# Altium schematic symbol library BT_Programmer_Shield.SchLib: 24 symbols
Pins are listed as number, name and electrical type; pins without a type are passive.

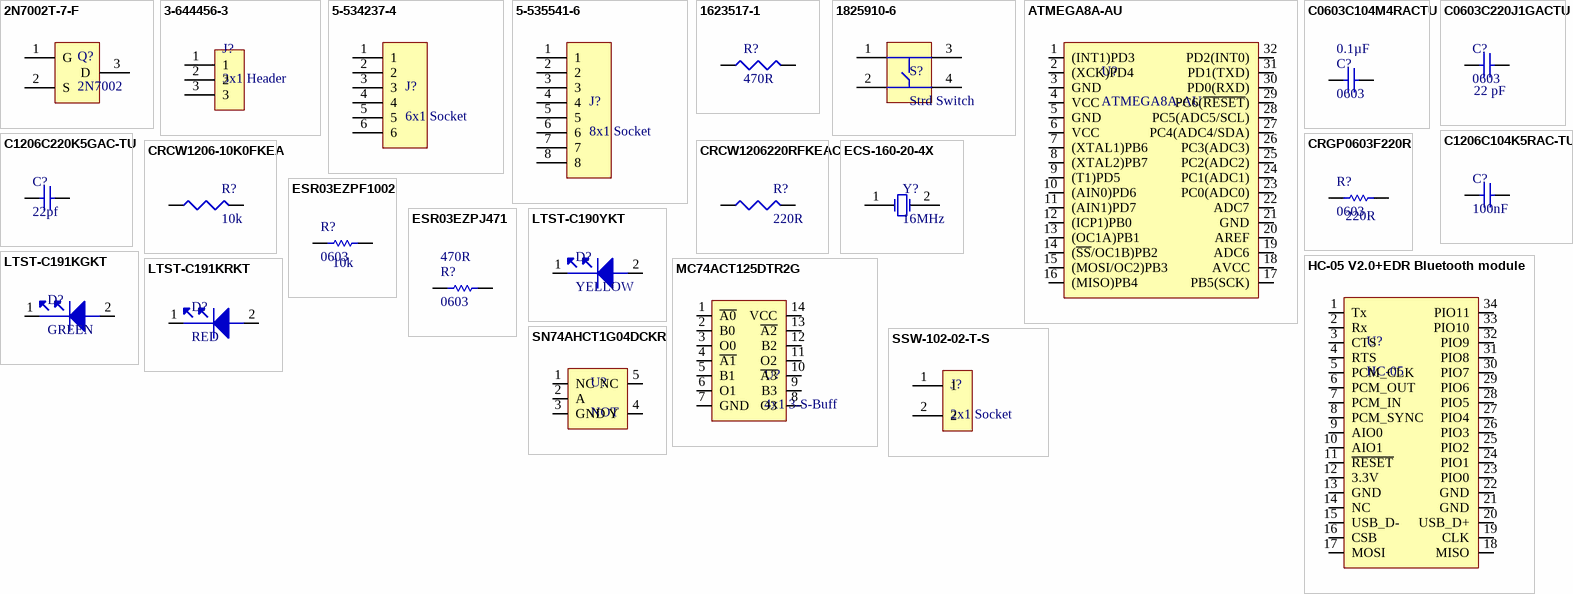
[diagram p0: symbols 2N7002T-7-F to SSW-102-02-T-S]

## 2N7002T-7-F
designator Q?, comment 2N7002
MOSFET N-Channel 60V 0.115A SOT523; Manufacturer: Diodes; Manufacturer Part Number: 2N7002T-7-F; Number of Channels: 1 Channel; Id - Continuous Drain Current: 115 mA; Rds On - Drain-Source Resistance: 4.4 Ohms; Vgs - Gate-Source Voltage: 20 V; Channel Mode: Enhancement; Brand: Diodes Incorporated; Configuration: Single; Forward Transconductance - Min: 0.08 S; Pd - Power Dissipation: 150 mW; Transistor Type: 1 N-Channel; Type: Enhancement Mode Field Effect Transistor; Typical Turn-Off Delay Time: 11 ns; Typical Turn-On Delay Time: 7 ns; Unit Weight: 0.000071 oz; Supplier 1: Digi-Key; Supplier Part Number 1: 2N7002T-FDICT-ND; Stock 1: 422299; Pricing 1: 1=0.38, 10=0.283, 25=0.2476, 100=0.1343, 500=0.1096, 1000=0.0813 (USD); Product Category: MOSFET; RoHS: True; Technology: Si; Mounting Style: SMD/SMT; Package / Case: SOT-523-3; Transistor Polarity: N-Channel; Vds - Drain-Source Breakdown Voltage: 60 V; Minimum Operating Temperature: - 55 C; Maximum Operating Temperature: + 150 C; Packaging: Reel; Height: 0.75 mm; Length: 1.6 mm; Product: MOSFET Small Signal; Series: 2N7002; Factory Pack Quantity: 3000; Width: 0.8 mm; ComponentLink1URL: http://docs-europe.electrocomponents.com/webdocs/0e49/0900766b80e493a7.pdf?src-supplier=Allied+Electronics; ComponentLink1Description: http://docs-europe.electrocomponents.com/webdocs/0e49/0900766b80e493a7.pdf?src-supplier=Allied+Electronics; ComponentLink2URL: https://www.diodes.com/assets/Datasheets/ds30301.pdf?src-supplier=Digi-Key; ComponentLink2Description: https://www.diodes.com/assets/Datasheets/ds30301.pdf?src-supplier=Digi-Key; ComponentLink3URL: https://www.verical.com/server-webapp/html/getDatasheet?partID=141065&src-supplier=Verical; ComponentLink3Description: https://www.verical.com/server-webapp/html/getDatasheet?partID=141065&src-supplier=Verical; ComponentLink4URL: http://www.diodes.com/datasheets/ds30301.pdf?src-supplier=Avnet; ComponentLink4Description: http://www.diodes.com/datasheets/ds30301.pdf?src-supplier=Avnet; ComponentLink5URL: http://www.farnell.com/datasheets/1915455.pdf?src-supplier=Element14; ComponentLink5Description: http://www.farnell.com/datasheets/1915455.pdf?src-supplier=Element14; ComponentLink6URL: http://www.diodes.com/_files/datasheets/ds30301.pdf?src-supplier=Future+Electronics; ComponentLink6Description: http://www.diodes.com/_files/datasheets/ds30301.pdf?src-supplier=Future+Electronics; ComponentLink7URL: http://www.diodes.com/datasheets/ds30301.pdf?src-supplier=Avnet+Europe; ComponentLink7Description: http://www.diodes.com/datasheets/ds30301.pdf?src-supplier=Avnet+Europe; ComponentLink8URL: http://www.jameco.com/Jameco/Products/ProdDS/1538460.pdf?src-supplier=Jameco; ComponentLink8Description: http://www.jameco.com/Jameco/Products/ProdDS/1538460.pdf?src-supplier=Jameco
footprint NMOS SOT523
pins: 1 G, 2 S, 3 D

## 3-644456-3
designator J?, comment 3x1 Header
CONN HEADER VERT 3POS 2.54MM; Manufacturer: TE Connectivity; Manufacturer Part Number: 3-644456-3; Catalog Drawings: 64 Series Strt Post Header; Featured Product: MTA Connectors; 3D Model: 3-644456-3.pdf; Connector Type: Header, Unshrouded; Number of Positions: 3; Number of Positions Loaded: All; Pitch: 0.100" (2.54mm); Dynamic Catalog: MTA-100 Series; Mating Products: 3-644872-3-ND / - CONN RCPT 3POS 24AWG .100 WHITE / 3-644514-3-ND / - CONN RCPT 3POS 28AWG .100 GREEN / 3-644513-3-ND / - CONN RCPT 3POS 26AWG .100 BLUE / 3-644512-3-ND / - CONN RCPT 3POS 24AWG .100 WHITE / 3-641314-3-ND / - CONN RCPT 3POS 28AWG .100 GREEN / 3-641313-3-ND / - CONN RCPT 3POS 26AWG .100 BLUE / 3-641311-3-ND / - CONN RCPT 3POS 22AWG .100 RED / 3-640471-3-ND / - CONN RCPT 3POS 28AWG .100 GREEN / 3-640470-3-ND / - CONN RCPT 3POS 26AWG .100 BLUE / 3-640469-3-ND / - CONN RCPT 3POS 24AWG .100 WHITE / More.; Other Names: 3-644456-3-ND / A31113; Supplier 1: Digi-Key; Supplier Part Number 1: A31113-ND; Stock 1: 6505; Pricing 1: 1=0.27, 10=0.26, 100=0.1817, 500=0.1558, 1000=0.1298, 5000=0.1113, 10000=0.1038 (USD); RoHS Information: 3-644456-3 Statement of Compliance; Standard Package: 15,000; Category: Connectors, Interconnects; Family: Rectangular Connectors - Headers, Male Pins; Series: MTA-100; Contact Type: Male Pin; Number of Rows: 1; Contact Mating Length: 0.295" (7.49mm); Mounting Type: Through Hole; Termination: Solder; Contact Finish: Tin; Contact Finish Thickness: 150µin (3.81µm); Color: Natural; Packaging: Bulk; ComponentLink1URL: https://www.te.com/commerce/DocumentDelivery/DDEController?Action=srchrtrv&DocNm=644456&DocType=Customer+Drawing&DocLang=English&src-supplier=Digi-Key; ComponentLink1Description: https://www.te.com/commerce/DocumentDelivery/DDEController?Action=srchrtrv&DocNm=644456&DocType=Customer+Drawing&DocLang=English&src-supplier=Digi-Key; ComponentLink2URL: https://www.alliedelec.com/m/d/fdd166ad3a7836eb9c030d72aa4949d7.pdf?src-supplier=Allied+Electronics; ComponentLink2Description: https://www.alliedelec.com/m/d/fdd166ad3a7836eb9c030d72aa4949d7.pdf?src-supplier=Allied+Electronics; ComponentLink3URL: https://www.verical.com/server-webapp/html/getDatasheet?partID=36881&src-supplier=Verical; ComponentLink3Description: https://www.verical.com/server-webapp/html/getDatasheet?partID=36881&src-supplier=Verical; ComponentLink4URL: http://www.te.com/commerce/DocumentDelivery/DDEController?Action=showdoc&DocId=Data+Sheet%7F82056_MTA%7F0608%7Fpdf%7FEnglish%7FENG_DS_82056_MTA_0608.pdf%7F3-644456-3&src-supplier=Future+Electronics; ComponentLink4Description: http://www.te.com/commerce/DocumentDelivery/DDEController?Action=showdoc&DocId=Data+Sheet%7F82056_MTA%7F0608%7Fpdf%7FEnglish%7FENG_DS_82056_MTA_0608.pdf%7F3-644456-3&src-supplier=Future+Electronics; ComponentLink5URL: http://www.jameco.com/Jameco/Products/ProdDS/1967934.pdf?src-supplier=Jameco; ComponentLink5Description: http://www.jameco.com/Jameco/Products/ProdDS/1967934.pdf?src-supplier=Jameco; ComponentLink6URL: http://www.onlinecomponents.com/productFiles/mf-AMP/8852eng_ds_82056_mta_0608.pdf?src-supplier=Onlinecomponents.com; ComponentLink6Description: http://www.onlinecomponents.com/productFiles/mf-AMP/8852eng_ds_82056_mta_0608.pdf?src-supplier=Onlinecomponents.com; Category: Connectors
footprint HDR1X3
pins: 1, 2, 3

## 5-534237-4
designator J?, comment 6x1 Socket
Conn Socket Strip SKT 6 POS 2.54mm Solder ST Thru-Hole; Manufacturer: TE Connectivity; Manufacturer Part Number: 5-534237-4; Catalog Drawings: MOD IV Vertical Mount; Featured Product: AMPMODU Connectors; Connector Type: Receptacle; Number of Positions: 6; Number of Positions Loaded: All; Pitch: 0.100" (2.54mm); Dynamic Catalog: AMPMODU Mod IV Series; Mating Products: 3-104349-0-ND / - CONN HDR BRKAY 6POS R/A .100 TIN / 5-146285-6-ND / - CONN HEADER BRKWAY 6POS SGL .100 / 5-146280-6-ND / - CONN HEADER BRKWAY 6POS SGL .100 / 3-103336-7-ND / - CONN HEADER .100 6POS VERT GOLD / 146133-4-ND / - CONN HEADER BRKAWAY 6POS TIN / 146129-4-ND / - CONN HEADER BRKAWAY 6POS .100 / 146132-4-ND / - CONN HEADER B/A 6POS SL PCB TIN / 104346-4-ND / - CONN HEADER 6POS VERT PCB TIN / 87348-6-ND / - CONN HEADER .100 6POS VERT TIN / A34265-06-ND / - CONN HEADR BRKWAY .100 06POS R/A / More...; Other Names: A32907; Supplier 1: Digi-Key; Supplier Part Number 1: A32907-ND; Stock 1: 947; Pricing 1: 1=1.62, 10=1.47, 100=1.26, 500=1.05, 1000=0.9, 5000=0.798, 10000=0.78 (USD); RoHS Information: 5-534237-4 Statement of Compliance; Standard Package: 37; Category: Connectors, Interconnects; Family: Rectangular Connectors - Headers, Receptacles, Female Sockets; Series: AMPMODU Mod IV; Contact Type: Female Socket; Number of Rows: 1; Mounting Type: Through Hole; Termination: Solder; Contact Finish: Gold; Contact Finish Thickness: 30µin (0.76µm); Color: Black; Packaging: Tube; ComponentLink1URL: http://www.te.com/commerce/DocumentDelivery/DDEController?Action=showdoc&DocId=Catalog+Section%7F1307819_SECTION_5%7F0908%7Fpdf%7FEnglish%7FENG_CS_1307819_SECTION_5_0908.pdf%7F5-534237-4&src-supplier=Future+Electronics; ComponentLink1Description: http://www.te.com/commerce/DocumentDelivery/DDEController?Action=showdoc&DocId=Catalog+Section%7F1307819_SECTION_5%7F0908%7Fpdf%7FEnglish%7FENG_CS_1307819_SECTION_5_0908.pdf%7F5-534237-4&src-supplier=Future+Electronics; ComponentLink2URL: https://www.te.com/commerce/DocumentDelivery/DDEController?Action=srchrtrv&DocNm=534237&DocType=Customer+Drawing&DocLang=English&src-supplier=Digi-Key; ComponentLink2Description: https://www.te.com/commerce/DocumentDelivery/DDEController?Action=srchrtrv&DocNm=534237&DocType=Customer+Drawing&DocLang=English&src-supplier=Digi-Key; ComponentLink3URL: http://www.te.com/commerce/DocumentDelivery/DDEController?Action=srchrtrv&DocNm=1307819_AMPMODU&DocType=DS&DocLang=English&s_cid=1046&src-supplier=Avnet; ComponentLink3Description: http://www.te.com/commerce/DocumentDelivery/DDEController?Action=srchrtrv&DocNm=1307819_AMPMODU&DocType=DS&DocLang=English&s_cid=1046&src-supplier=Avnet; Category: Connectors
footprint FHDR1X6
pins: 1, 2, 3, 4, 5, 6

## 5-535541-6
designator J?, comment 8x1 Socket
CONN RECEPT 8POS .100 VERT GOLD; Manufacturer: TE Connectivity; Manufacturer Part Number: 5-535541-6; Catalog Drawings: MOD IV Vertical Mount Low Profile; Featured Product: AMPMODU Connectors; 3D Model: 5-535541-6.pdf; Connector Type: Receptacle; Number of Positions: 8; Number of Positions Loaded: All; Pitch: 0.100" (2.54mm); Dynamic Catalog: AMPMODU Mod IV Series; Mating Products: 826646-8-ND / - CONN HEADER BRKWAY 8POS STR GOLD / 5-146282-8-ND / - CONN HEADER BRKWAY 8POS SGL .100 / 146285-8-ND / - CONN HEADER BRKWAY 8POS SGL .100 / 146281-8-ND / - CONN HEADER BRKWAY 8POS SGL .100 / 104349-6-ND / - CONN HEADER 8POS R/A TIN / A34264-08-ND / - CONN HEADR BRKWAY .100 08POS R/A / A34262-08-ND / - CONN HEADR BRKWAY .100 08POS R/A / A34261-08-ND / - CONN HEADR BRKWAY .100 08POS R/A / A34260-08-ND / - CONN HEADR BRKWAY .100 08POS R/A / A34256-08-ND / - CONN HDR BRKWAY .100 08POS VERT / More...; Other Names: A32921; Supplier 1: Digi-Key; Supplier Part Number 1: A32921-ND; Stock 1: 1412; Pricing 1: 1=2, 10=1.813, 100=1.554, 500=1.295, 1000=1.11, 5000=0.9842, 10000=0.962 (USD); RoHS Information: 5-535541-6 Statement of Compliance; Standard Package: 28; Category: Connectors, Interconnects; Family: Rectangular Connectors - Headers, Receptacles, Female Sockets; Series: AMPMODU Mod IV; Contact Type: Female Socket; Number of Rows: 1; Mounting Type: Through Hole; Termination: Solder; Contact Finish: Gold; Contact Finish Thickness: 30µin (0.76µm); Color: Black; Packaging: Tube; ComponentLink1URL: https://www.te.com/commerce/DocumentDelivery/DDEController?Action=srchrtrv&DocNm=535541&DocType=Customer+Drawing&DocLang=English&src-supplier=Digi-Key; ComponentLink1Description: https://www.te.com/commerce/DocumentDelivery/DDEController?Action=srchrtrv&DocNm=535541&DocType=Customer+Drawing&DocLang=English&src-supplier=Digi-Key; ComponentLink2URL: http://www.tycoelectronics.com/commerce/DocumentDelivery/DDEController?Action=srchrtrv&DocNm=1307819_SECTION_5&DocType=Catalog+Section&DocLang=English&src-supplier=Element14; ComponentLink2Description: http://www.tycoelectronics.com/commerce/DocumentDelivery/DDEController?Action=srchrtrv&DocNm=1307819_SECTION_5&DocType=Catalog+Section&DocLang=English&src-supplier=Element14; ComponentLink3URL: http://www.onlinecomponents.com/productFiles/mf-AMP/eng_ds_1307819_ampmodu_0811.pdf?src-supplier=Onlinecomponents.com; ComponentLink3Description: http://www.onlinecomponents.com/productFiles/mf-AMP/eng_ds_1307819_ampmodu_0811.pdf?src-supplier=Onlinecomponents.com; Category: Connectors
footprint FHDR1X8
pins: 1, 2, 3, 4, 5, 6, 7, 8

## 1623517-1
designator R?, comment 470R
Res Thick Film 1206 470 Ohm 1% 0.25W(1/4W) ±100ppm/C Pad SMD T/R; Manufacturer: TE Connectivity; Manufacturer Part Number: 1623517-1; Resistance (Ohms): 470; Power (Watts): 0.25W, 1/4W; Temperature Coefficient: ±100ppm/°C; Dynamic Catalog: CRG, Neohm Series; Other Names: 1623517-1-ND / A106077TR / CRG1206F470R; Supplier 1: Digi-Key; Supplier Part Number 1: A106077CT-ND; Stock 1: 86246; Pricing 1: 1=0.1, 10=0.071, 100=0.029, 1000=0.013, 2500=0.0113 (USD); RoHS Information: 1623517-1 Statement of Compliance; Standard Package: 5,000; Category: Resistors; Family: Chip Resistor - Surface Mount; Series: CRG, Neohm; Composition: Thick Film; Tolerance: ±1%; Package / Case: 1206 (3216 Metric); Supplier Device Package: 1206; Size / Dimension: 0.122" L x 0.061" W (3.10mm x 1.55mm); Height: 0.026" (0.65mm); Number of Terminations: 2; Packaging: Tape & Reel (TR); ComponentLink1URL: http://www.te.com/commerce/DocumentDelivery/DDEController?Action=srchrtrv&DocNm=1773204&DocType=DS&DocLang=English&src-supplier=Digi-Key; ComponentLink1Description: http://www.te.com/commerce/DocumentDelivery/DDEController?Action=srchrtrv&DocNm=1773204&DocType=DS&DocLang=English&src-supplier=Digi-Key; ComponentLink2URL: http://www.te.com/commerce/DocumentDelivery/DDEController?Action=showdoc&DocId=Data+Sheet%7F1773204%7FH%7Fpdf%7FEnglish%7FENG_DS_1773204_H.pdf&src-supplier=Avnet; ComponentLink2Description: http://www.te.com/commerce/DocumentDelivery/DDEController?Action=showdoc&DocId=Data+Sheet%7F1773204%7FH%7Fpdf%7FEnglish%7FENG_DS_1773204_H.pdf&src-supplier=Avnet
footprint R1206
pins: 1, 2

## 1825910-6
designator S?, comment Strd Switch
SWITCH TACTILE SPST-NO 0.05A 24V; Manufacturer: TE Connectivity Alcoswitch; Manufacturer Part Number: 1825910-6; Actuator Color: Black; Actuator Length: 1.4 mm; Actuator Material: Polybutylene Terephthalate; Body Orientation: Straight; Actuator Style: Round Button; Bushing Type: Unthreaded; Electrical Life: 100000 Cycles; Dielectric Strength: 500 VAC; Contact Rating @ Voltage: 0.05A@24VDC; Function: Momentary Contact; Pole Throw Configuration: SPST; Maximum Contact Resistance: 100 mOhm; Illumination: N/R; Switch Configuration: OFF (ON); Supplier 1: Digi-Key; Supplier Part Number 1: 450-1650-ND; Stock 1: 104984; Pricing 1: 1=0.1, 10=0.101, 25=0.0956, 100=0.087, 250=0.0818, 500=0.0748, 1000=0.0627, 2500=0.0609, 5000=0.0574 (USD); Base Material: N/A; Family: 1825910; Contact Material: Copper Alloy; Contact Plating: Silver; Dimension: 5.99 x 5 mm; Part No: 1825910-6; RoHS: Yes; Maximum AC Voltage Rating: N/A; Maximum DC Voltage Rating: 24 V; Mechanical Life: 100000 Cycles; Packaging: N/A; Housing Material: N/A; Product Weight: N/A; Mounting: Through Hole; Minimum Insulation Resistance: 100 MOhm; Operating Temperature: -35 to 85 C; Terminal Type: PC Pins; Seal Description: N/A; Seal Location: N/A; Thread Size: N/R; ComponentLink1URL: http://www.onlinecomponents.com/productFiles/mf-AMP/1825910-6rqpn1825910-6.pdf?src-supplier=Onlinecomponents.com; ComponentLink1Description: http://www.onlinecomponents.com/productFiles/mf-AMP/1825910-6rqpn1825910-6.pdf?src-supplier=Onlinecomponents.com; ComponentLink2URL: http://www.te.com/commerce/DocumentDelivery/DDEController?Action=srchrtrv&DocNm=1825910&DocType=Customer+Drawing&DocLang=English&src-supplier=Verical; ComponentLink2Description: http://www.te.com/commerce/DocumentDelivery/DDEController?Action=srchrtrv&DocNm=1825910&DocType=Customer+Drawing&DocLang=English&src-supplier=Verical; Category: Switches
footprint SW DIP2
pins: 1, 2, 3, 4

## ATMEGA8A-AU
designator U?
MCU 8-bit ATmega AVR RISC 8KB Flash 3.3V/5V 32-Pin TQFP; Manufacturer: Microchip; Supplier 1: Digi-Key; Supplier Part Number 1: ATMEGA8A-AU-ND; Manufacturer Part Number: ATMEGA8A-AU; Stock 1: 786; Pricing 1: 1=1.91, 25=1.75, 100=1.59 (USD); Category: Integrated Circuits (ICs)
footprint M8 32L_TQFP_PT
pins: 1 (INT1)PD3, 2 (XCK)PD4, 3 GND, 4 VCC, 5 GND, 6 VCC, 7 (XTAL1)PB6, 8 (XTAL2)PB7, 9 (T1)PD5, 10 (AIN0)PD6, 11 (AIN1)PD7, 12 (ICP1)PB0, 13 (OC1A)PB1, 14 (~{SS}/OC1B)PB2, 15 (MOSI/OC2)PB3, 16 (MISO)PB4, 17 PB5(SCK), 18 AVCC, 19 ADC6, 20 AREF, 21 GND, 22 ADC7, 23 PC0(ADC0), 24 PC1(ADC1), 25 PC2(ADC2), 26 PC3(ADC3), 27 PC4(ADC4/SDA), 28 PC5(ADC5/SCL), 29 PC6(~{RESET}), 30 PD0(RXD), 31 PD1(TXD), 32 PD2(INT0)

## C0603C104M4RACTU
designator C?, comment 0603  Capacitance: 0.1µF
CAP CER 0.1UF 16V X7R 0603; Manufacturer: KEMET; Manufacturer Part Number: C0603C104M4RACTU; Ceramic Capacitor Case: 0603 [1608 Metric]; Capacitance Tolerance: ± 20%; Product Range: C Series; SVHC: No SVHC (15-Jun-2015); Supplier 1: Digi-Key; Supplier Part Number 1: 399-1099-1-ND; Stock 1: 188304; Pricing 1: 1=0.1, 10=0.035, 50=0.0188, 100=0.0154, 500=0.011, 1000=0.0087 (USD); Voltage Rating: 16V; Dielectric Characteristic: X7R; Packaging: Cut Tape; Operating Temperature Min: -55°C; Operating Temperature Max: 125°C; Automotive Qualification Standard: -; MSL: MSL 1 - Unlimited; ComponentLink1URL: https://www.verical.com/server-webapp/html/getDatasheet?partID=66190&src-supplier=Verical; ComponentLink1Description: https://www.verical.com/server-webapp/html/getDatasheet?partID=66190&src-supplier=Verical; ComponentLink2URL: http://www.farnell.com/datasheets/2746055.pdf?src-supplier=Element14; ComponentLink2Description: http://www.farnell.com/datasheets/2746055.pdf?src-supplier=Element14; ComponentLink3URL: http://www.farnell.com/datasheets/2123765.pdf?src-supplier=Element14; ComponentLink3Description: http://www.farnell.com/datasheets/2123765.pdf?src-supplier=Element14; ComponentLink4URL: http://www.alliedelec.com/m/d/9bfe7773041ffe9d406e68bc7b377fdd.pdf?src-supplier=Allied+Electronics; ComponentLink4Description: http://www.alliedelec.com/m/d/9bfe7773041ffe9d406e68bc7b377fdd.pdf?src-supplier=Allied+Electronics; ComponentLink5URL: https://www.verical.com/server-webapp/html/getDatasheet?partID=302288&src-supplier=Verical; ComponentLink5Description: https://www.verical.com/server-webapp/html/getDatasheet?partID=302288&src-supplier=Verical
footprint C0603
pins: 1, 2

## C0603C220J1GACTU
designator C?, comment 0603  Capacitance: 22 pF
CAP CER 22PF 100V C0G/NP0 0603; Manufacturer: KEMET; Manufacturer Part Number: C0603C220J1GACTU; Part # Aliases: C0603C220J1GAC7867; Tolerance: 5 %; Dielectric: C0G (NP0); Case Height: 0.8 mm; Case Length: 1.6 mm; Class: 1; Dissipation Factor DF: 0.5; Temperature Coefficient / Code: +/- 30 PPM / C; Type: C0G Dielectric, Commercial; Supplier 1: Digi-Key; Supplier Part Number 1: 399-7874-1-ND; Stock 1: 518345; Pricing 1: 1=0.1, 10=0.057, 50=0.0312, 100=0.0255, 500=0.0182, 1000=0.0143 (USD); Dimensions: 0.8 mm W x 1.6 mm L x 0.8 mm H; Voltage Rating: 100 V; Product Category: Multilayer Ceramic Capacitors MLCC - SMD/SMT; RoHS: Details; Brand: Kemet; Voltage Rating DC: 100 V; Case Code - in: 0603; Case Code - mm: 1608; Minimum Operating Temperature: - 55 C; Maximum Operating Temperature: + 125 C; Product: General Type MLCCs; Case Width: 0.8 mm; Lead Spacing: 0.7 mm; Operating Temperature Range: - 55 C to + 125 C; Package / Case: 0603 (1608 metric); Packaging: Reel; Series: C0603C; Factory Pack Quantity: 4000; Termination Style: SMD/SMT; ComponentLink1URL: http://www.farnell.com/datasheets/2740975.pdf?src-supplier=Element14; ComponentLink1Description: http://www.farnell.com/datasheets/2740975.pdf?src-supplier=Element14; Category: Capacitors
footprint C0603
pins: 1, 2

## C1206C104K5RAC-TU
designator C?, comment 100nF
Kemet 0.1µF ±10% 50V dc X7R Dielectric SMD Ceramic Multilayer Capacitor; 1206 pa; Manufacturer Part Number: C1206C104K5RAC-TU; SVHC: To Be Advised; Product Range: KEMET - C Series; Capacitor Case Style: 1206 [3216 Metric]; Supplier 1: Digi-Key; Supplier Part Number 1: 399-C1206C104K5RAC7800CT-ND; Manufacturer: KEMET; Stock 1: 1664205; Pricing 1: 1=0.12, 10=0.084, 50=0.0476, 100=0.0395, 500=0.0277, 1000=0.0229 (USD); Capacitance: 0.1µF; Capacitance Tolerance: ± 10%; Dielectric Characteristic: X7R; Voltage Rating: 50V; Operating Temperature Min: -55°C; Operating Temperature Max: 125°C; Packaging: Tape & Reel; ComponentLink1URL: http://www.kemet.com/kemet/web/homepage/kechome.nsf/vapubfiles/KEM_C1002_X7R_SMD.pdf/$file/KEM_C1002_X7R_SMD.pdf?src-supplier=Farnell; ComponentLink1Description: http://www.kemet.com/kemet/web/homepage/kechome.nsf/vapubfiles/KEM_C1002_X7R_SMD.pdf/$file/KEM_C1002_X7R_SMD.pdf?src-supplier=Farnell; ComponentLink2URL: http://www.mouser.com/ds/2/212/KEM_C1002_X7R_SMD-1102033.pdf?src-supplier=Mouser; ComponentLink2Description: http://www.mouser.com/ds/2/212/KEM_C1002_X7R_SMD-1102033.pdf?src-supplier=Mouser; ComponentLink3URL: http://www.farnell.com/datasheets/2315737.pdf?src-supplier=Farnell; ComponentLink3Description: http://www.farnell.com/datasheets/2315737.pdf?src-supplier=Farnell; ComponentLink4URL: http://www.alliedelec.com/m/d/9bfe7773041ffe9d406e68bc7b377fdd.pdf?src-supplier=Allied+Electronics; ComponentLink4Description: http://www.alliedelec.com/m/d/9bfe7773041ffe9d406e68bc7b377fdd.pdf?src-supplier=Allied+Electronics; ComponentLink5URL: http://www.farnell.com/datasheets/1851736.pdf?src-supplier=Element14; ComponentLink5Description: http://www.farnell.com/datasheets/1851736.pdf?src-supplier=Element14; ComponentLink6URL: http://www.kemet.com/kemet/web/homepage/kechome.nsf/vapubfiles/KEM_C1002_X7R_SMD.pdf/$file/KEM_C1002_X7R_SMD.pdf?src-supplier=Element14; ComponentLink6Description: http://www.kemet.com/kemet/web/homepage/kechome.nsf/vapubfiles/KEM_C1002_X7R_SMD.pdf/$file/KEM_C1002_X7R_SMD.pdf?src-supplier=Element14; ComponentLink7URL: http://www.onlinecomponents.com/productFiles/mf-KEM/docfinderpartnumberc0402c102k5ractu.pdf?src-supplier=Onlinecomponents.com; ComponentLink7Description: http://www.onlinecomponents.com/productFiles/mf-KEM/docfinderpartnumberc0402c102k5ractu.pdf?src-supplier=Onlinecomponents.com; ComponentLink8URL: https://www.distrelec.biz/Web/Downloads/_t/ds/KEM_C1002_X7R_SMD_eng_tds.pdf?mime=application%2Fpdf&src-supplier=Distrelec; ComponentLink8Description: https://www.distrelec.biz/Web/Downloads/_t/ds/KEM_C1002_X7R_SMD_eng_tds.pdf?mime=application%2Fpdf&src-supplier=Distrelec; Category: Capacitors
footprint C1206
pins: 1, 2

## C1206C220K5GAC-TU
designator C?, comment 22pf
Cap Ceramic 22pF 50V C0G 10% SMD 1206 125°C Plastic T/R; Manufacturer: KEMET; Manufacturer Part Number: C1206C220K5GAC-TU; Part # Aliases: C1206C220K5GAC7800; Case Height: 0.78 mm; Case Length: 3.2 mm; Dielectric: C0G (NP0); Case Width: 1.6 mm; Class: Class 1; Dissipation Factor DF: 0.1; Temperature Coefficient / Code: +/- 30 PPM / C; Type: SMD MLCC C0G 10 - 250 VDC Commercial Grade; Supplier 1: Digi-Key; Supplier Part Number 1: 399-8165-1-ND; Stock 1: 40150; Pricing 1: 1=0.21, 10=0.152, 50=0.0864, 100=0.0716, 500=0.0502, 1000=0.0416 (USD); Brand: Kemet; Capacitance: 22 pF; Case Code - in: 1206; Case Code - mm: 3216; Dimensions: 1.6 mm W x 3.2 mm L x 0.78 mm H; Maximum Operating Temperature: + 125 C; Factory Pack Quantity: 4000; Voltage Rating: 50 V; Product Category: Multilayer Ceramic Capacitors MLCC - SMD/SMT; RoHS: Details; Voltage Rating DC: 50 V; Tolerance: 10 %; Minimum Operating Temperature: - 55 C; Product: General Type MLCCs; Operating Temperature Range: - 55 C to + 125 C; Package / Case: 1206 (3216 metric); Packaging: Reel; Series: C1206C; Termination Style: SMD/SMT; ComponentLink1URL: http://www.mouser.com/ds/2/212/KEM_C1003_C0G_SMD-1101588.pdf?src-supplier=Mouser; ComponentLink1Description: http://www.mouser.com/ds/2/212/KEM_C1003_C0G_SMD-1101588.pdf?src-supplier=Mouser; Category: Capacitors
footprint C1206
pins: 1, 2

## CRCW1206-10K0FKEA
designator R?, comment 10k
Resistor; Thick Film; 10 Kilohms; 0.25 W; 1%; SMT; 1206; TCR 37 ppm/DegC; Tape and Reel; Manufacturer: Vishay; Manufacturer Part Number: CRCW1206-10K0FKEA; Brand: Vishay / Dale; Resistance: 10 kOhms; Power Rating: 250 mW (1/4 W); Temperature Coefficient: 100 PPM / K; Voltage Rating: 200 V; Unit Weight: 0.000353 oz; Supplier 1: Digi-Key; Supplier Part Number 1: 541-10.0KFCT-ND; Stock 1: 126056; Pricing 1: 1=0.1, 10=0.073, 100=0.0282, 1000=0.0124, 2500=0.0107 (USD); Product Category: Thick Film Resistors - SMD; RoHS: Details; Tolerance: 1 %; Case Code - in: 1206; Case Code - mm: 3216; Operating Temperature Range: - 55 C to + 155 C; Series: CRCW; Height: 0.55 mm; Length: 3.2 mm; Package / Case: 1206 (3216 metric); Packaging: Reel; Product: Thick Film Resistors SMD; Factory Pack Quantity: 5000; Termination Style: SMD/SMT; Width: 1.6 mm; ComponentLink1URL: http://www.vishay.com/docs/20035/dcrcwe3.pdf?src-supplier=Digi-Key; ComponentLink1Description: http://www.vishay.com/docs/20035/dcrcwe3.pdf?src-supplier=Digi-Key; ComponentLink2URL: http://www.mouser.com/ds/2/427/dcrcwe3-109170.pdf?src-supplier=Mouser; ComponentLink2Description: http://www.mouser.com/ds/2/427/dcrcwe3-109170.pdf?src-supplier=Mouser; ComponentLink3URL: http://uk.rs-online.com/webdocs/0d98/0900766b80d98b5e.pdf?src-supplier=RSComponents; ComponentLink3Description: http://uk.rs-online.com/webdocs/0d98/0900766b80d98b5e.pdf?src-supplier=RSComponents; ComponentLink4URL: http://www.farnell.com/datasheets/2111203.pdf?src-supplier=Element14; ComponentLink4Description: http://www.farnell.com/datasheets/2111203.pdf?src-supplier=Element14; ComponentLink5URL: http://www.jameco.com/Jameco/Products/ProdDS/2173693.pdf?src-supplier=Jameco; ComponentLink5Description: http://www.jameco.com/Jameco/Products/ProdDS/2173693.pdf?src-supplier=Jameco; ComponentLink6URL: http://www.vishay.com/docs/20035/dcrcwe3.pdf?src-supplier=Avnet+Europe; ComponentLink6Description: http://www.vishay.com/docs/20035/dcrcwe3.pdf?src-supplier=Avnet+Europe; ComponentLink7URL: http://www.vishay.com/docs/20035/dcrcwe3.pdf?src-supplier=Avnet; ComponentLink7Description: http://www.vishay.com/docs/20035/dcrcwe3.pdf?src-supplier=Avnet; ComponentLink8URL: https://www.distrelec.biz/Web/Downloads/a_/en/flD-CRCW-e3_data_en.pdf?mime=application%2Fpdf&src-supplier=Distrelec; ComponentLink8Description: https://www.distrelec.biz/Web/Downloads/a_/en/flD-CRCW-e3_data_en.pdf?mime=application%2Fpdf&src-supplier=Distrelec; ComponentLink9URL: http://www.vishay.com/docs/20035/dcrcwe3.pdf?src-supplier=Future+Electronics; ComponentLink9Description: http://www.vishay.com/docs/20035/dcrcwe3.pdf?src-supplier=Future+Electronics; ComponentLink10URL: http://www.alliedelec.com/m/d/0c934d6939ccefa68dbe0b96d821c8cf.pdf?src-supplier=Allied+Electronics; ComponentLink10Description: http://www.alliedelec.com/m/d/0c934d6939ccefa68dbe0b96d821c8cf.pdf?src-supplier=Allied+Electronics; Category: Resistors
footprint R1206
pins: 1, 2

## CRCW1206220RFKEAC
designator R?, comment 220R
RES SMD 220 OHM 1% 1/4W 1206; Manufacturer: Vishay Dale; Manufacturer Part Number: CRCW1206220RFKEAC; Categories: Resistors; Resistance: 220 Ohms; Power (Watts): 0.25W, 1/4W; Temperature Coefficient: ±100ppm/°C; Supplier 1: Digi-Key; Supplier Part Number 1: 541-4190-1-ND; Stock 1: 41055; Pricing 1: 1=0.1, 10=0.07, 100=0.0271, 1000=0.0119, 2500=0.0103 (USD); Series: CRCW-C; Packaging: Tape & Reel (TR); Part Status: Active; Tolerance: ±1%; Composition: Thick Film; Features: -; Operating Temperature: -55°C ~ 155°C; Package / Case: 1206 (3216 Metric); Supplier Device Package: 1206; Size / Dimension: 0.120 L x 0.061 W (3.05mm x 1.55mm); Height - Seated (Max): 0.026 (0.65mm); Number of Terminations: 2; Failure Rate: -; ComponentLink1URL: http://www.vishay.com/docs/28773/crcwce3.pdf?src-supplier=Digi-Key; ComponentLink1Description: http://www.vishay.com/docs/28773/crcwce3.pdf?src-supplier=Digi-Key; Category: Resistors
footprint R1206
pins: 1, 2

## CRGP0603F220R
designator R?, comment 0603  Resistance: 220R
CRGP 0603 220R 1%; Manufacturer: TE Connectivity; Manufacturer Part Number: CRGP0603F220R; Categories: Resistors; Power (Watts): 0.25W, 1/4W; Temperature Coefficient: ±100ppm/°C; Supplier 1: Digi-Key; Supplier Part Number 1: A130408CT-ND; Stock 1: 49528; Pricing 1: 1=0.14, 10=0.121, 100=0.0473, 1000=0.0198, 2500=0.0182 (USD); Series: CRGP; Packaging: Cut Tape (CT); Part Status: Active; Tolerance: ±1%; Composition: Thick Film; Features: Pulse Withstanding; Operating Temperature: -55°C ~ 155°C; Package / Case: 0603 (1608 Metric); Supplier Device Package: 0603; Size / Dimension: 0.063 L x 0.031 W (1.60mm x 0.80mm); Height - Seated (Max): 0.022 (0.55mm); Number of Terminations: 2; Failure Rate: -; ComponentLink1URL: https://www.te.com/commerce/DocumentDelivery/DDEController?Action=srchrtrv&DocNm=9-1773463-9&DocType=DS&DocLang=English&src-supplier=Digi-Key; ComponentLink1Description: https://www.te.com/commerce/DocumentDelivery/DDEController?Action=srchrtrv&DocNm=9-1773463-9&DocType=DS&DocLang=English&src-supplier=Digi-Key
footprint R0603
pins: 1, 2

## ECS-160-20-4X
designator Y?, comment 16MHz
CRYSTAL 16.0000MHZ 20PF T/H; Manufacturer: ECS International; Manufacturer Part Number: ECS-160-20-4X; Brand: ECS; Case Height: 3.5 mm; Case Length: 11.35 mm; Case Width: 4.65 mm; Frequency Stability: 50 PPM; Tolerance: 30 PPM; Supplier 1: Digi-Key; Supplier Part Number 1: X1103-ND; Stock 1: 5001; Pricing 1: 1=0.69, 10=0.575, 50=0.5176, 100=0.46, 500=0.437, 1000=0.368, 2500=0.345, 5000=0.3335, 10000=0.322 (USD); Dimensions: 4.65 mm W x 11.35 mm L x 3.5 mm H; Factory Pack Quantity: 200; Frequency: 16 MHz; Load Capacitance: 20 pF; Package / Case: HC-49/US; Operating Temperature Range: - 10 C to + 70 C; Packaging: Bulk; Mounting Style: Through Hole; Product Category: Crystals; RoHS: Details; Termination Style: Radial; Series: HCS49USX; Type: Quartz Crystals; ComponentLink1URL: http://www.ecsxtal.com/store/pdf/partnumber4.pdf?src-supplier=Digi-Key; ComponentLink1Description: http://www.ecsxtal.com/store/pdf/partnumber4.pdf?src-supplier=Digi-Key; Category: Crystals
footprint Y HC-49/US
pins: 1, 2

## ESR03EZPF1002
designator R?, comment 0603  Resistance (Ohms): 10k
RES SMD 10K OHM 1% 1/4W 0603; Manufacturer: Rohm; Manufacturer Part Number: ESR03EZPF1002; Product Training Modules: Resistor Products Overview; Featured Product: ROHM Chip Resistors; EDA / CAD Models: Download from Accelerated Designs; Power (Watts): 0.25W, 1/4W; Temperature Coefficient: ±100ppm/°C; Online Catalog: ESR03 Series; Other Names: RHM10KADDKR; Supplier 1: Digi-Key; Supplier Part Number 1: RHM10KADCT-ND; Stock 1: 173014; Pricing 1: 1=0.12, 10=0.11, 100=0.0424, 1000=0.0187, 2500=0.0161 (USD); Standard Package: 1; Category: Resistors; Family: Chip Resistor - Surface Mount; Series: ESR; Packaging: Digi-Reel®; Tolerance: ±1%; Composition: Thick Film; Features: Automotive AEC-Q200, Pulse Withstanding; Operating Temperature: -55°C ~ 155°C; Package / Case: 0603 (1608 Metric); Supplier Device Package: 0603 (1608 Metric); Size / Dimension: 0.063" L x 0.031" W (1.60mm x 0.80mm); Height: 0.022" (0.55mm); Number of Terminations: 2; ComponentLink1URL: https://www.rohm.com/datasheet/ESR01MZPF/esr-e?src-supplier=Digi-Key; ComponentLink1Description: https://www.rohm.com/datasheet/ESR01MZPF/esr-e?src-supplier=Digi-Key
footprint R0603
pins: 1, 2

## ESR03EZPJ471
designator R?, comment 0603  Resistance: 470R
ROHM - ESR03EZPJ471 - SMD Chip Resistor, Anti-Surge, 0603 [1608 Metric], 470 ohm, ESR Series, 150 V, Thick Film, 250 mW; Categories: Resistors; Tolerance: ±5%; Power (Watts): 0.25W, 1/4W; Temperature Coefficient: ±200ppm/°C; Supplier 1: Digi-Key; Supplier Part Number 1: RHM470DCT-ND; Manufacturer: Rohm; Manufacturer Part Number: ESR03EZPJ471; Stock 1: 23164; Pricing 1: 1=0.1, 10=0.079, 100=0.0303, 1000=0.0133, 2500=0.0115 (USD); Series: ESR; Packaging: Tape & Reel (TR); Part Status: Active; Composition: Thick Film; Features: Automotive AEC-Q200, Pulse Withstanding; Operating Temperature: -55°C ~ 155°C; Package / Case: 0603 (1608 Metric); Supplier Device Package: 0603; Size / Dimension: 0.063 L x 0.031 W (1.60mm x 0.80mm); Height - Seated (Max): 0.022 (0.55mm); Number of Terminations: 2; Failure Rate: -; ComponentLink1URL: http://www.farnell.com/datasheets/2611941.pdf?src-supplier=Element14; ComponentLink1Description: http://www.farnell.com/datasheets/2611941.pdf?src-supplier=Element14; ComponentLink2URL: http://www.farnell.com/datasheets/2611941.pdf?src-supplier=Farnell; ComponentLink2Description: http://www.farnell.com/datasheets/2611941.pdf?src-supplier=Farnell; ComponentLink3URL: https://www.rohm.com/datasheet/ESR01MZPF/esr-e?src-supplier=Digi-Key; ComponentLink3Description: https://www.rohm.com/datasheet/ESR01MZPF/esr-e?src-supplier=Digi-Key; ComponentLink4URL: http://www.farnell.com/datasheets/2611941.pdf?src-supplier=Newark; ComponentLink4Description: http://www.farnell.com/datasheets/2611941.pdf?src-supplier=Newark
footprint R0603
pins: 1, 2

## HC-05 V2.0+EDR Bluetooth module
designator U?, comment HC-05
footprint HC-05
pins: 1 Tx, 2 Rx, 3 CTS, 4 RTS, 5 PCM_CLK, 6 PCM_OUT, 7 PCM_IN, 8 PCM_SYNC, 9 AIO0, 10 AIO1, 11 ~{RESET}, 12 3.3V, 13 GND, 14 NC, 15 USB_D-, 16 CSB, 17 MOSI, 18 MISO, 19 CLK, 20 USB_D+, 21 GND, 22 GND, 23 PIO0, 24 PIO1, 25 PIO2, 26 PIO3, 27 PIO4, 28 PIO5, 29 PIO6, 30 PIO7, 31 PIO8, 32 PIO9, 33 PIO10, 34 PIO11

## LTST-C190YKT
designator D?, comment YELLOW
LED YELLOW CLEAR CHIP SMD; Manufacturer: Vishay Lite-On; Manufacturer Part Number: LTST-C190YKT; Chip Material: GaAsP; DELETED: Compliant; Dominant Wave Length: 588 nm; Emitting Color: Amber; Forward Current: 20 mA; Forward Voltage: 2.6 V; High Brightness: No; Lum Intensity: 2.5mcd; Main Category: Chip LED; Number of  Elements: 1; Peak Wavelength: 585 nm; Power Dissipation: 60 W; Product Depth (mm): 1.6 mm; Product Height (mm): 1.1 mm; Product Length (mm): 3.2 mm; Reverse Voltage: 5 V; Shape Type: Rectangular; Test Current (It): 10 mA; Type: Uni-Color; Viewing Angle: 130 deg; Supplier 1: Digi-Key; Supplier Part Number 1: 160-1184-1-ND; Stock 1: 45611; Pricing 1: 1=0.26, 10=0.192, 100=0.0909, 500=0.0606, 1000=0.0475 (USD); Lens Dimensions: 1.1X0.8X0.52 mm; Luminous Intensity: 2.5mcd; Mounting: Surface Mount; Operating Temp Range: -55C to 85C; Operating Temperature Classification: Industrial; Package Type: Chip Led; Packaging: Tape and Reel; Pin Count: 2; Rad Hardened: No; ComponentLink1URL: http://www.mouser.com/ds/2/239/ltstc190yktliteon-194900.pdf?src-supplier=Mouser; ComponentLink1Description: http://www.mouser.com/ds/2/239/ltstc190yktliteon-194900.pdf?src-supplier=Mouser; ComponentLink2URL: https://media.digikey.com/pdf/Data%20Sheets/Lite-On%20PDFs/LTST-C190YKT.pdf?src-supplier=Digi-Key; ComponentLink2Description: https://media.digikey.com/pdf/Data%20Sheets/Lite-On%20PDFs/LTST-C190YKT.pdf?src-supplier=Digi-Key; ComponentLink3URL: https://www.verical.com/server-webapp/html/getDatasheet?partID=242407&src-supplier=Verical; ComponentLink3Description: https://www.verical.com/server-webapp/html/getDatasheet?partID=242407&src-supplier=Verical; Category: Optoelectronics
footprint LED 0603Y
pins: 1, 2

## LTST-C191KGKT
designator D?, comment GREEN
LED Uni-Color Green 574nm 2-Pin Chip LED T/R; Manufacturer: Vishay Lite-On; Manufacturer Part Number: LTST-C191KGKT; ECCN (US): EAR99; Number of LEDs: 1; LED Material: AllnGaP; Lens Shape Type: Rectangular; Lens Appearance: Colorless; Mounting Orientation: Top Mount; Intensity: 71mcd(Max); Dominant Wavelength (nm): 576.5(Max); Peak Wavelength (nm): 574; Viewing Angle (°): 130; Maximum Forward Current (mA): 30; Test Current (mA): 20; Maximum Forward Voltage (V): 2.4; Reverse Voltage (V): 5; Maximum Power Dissipation (mW): 75; Lead Standoff: No; High Brightness: Yes; Package Height: 0.55; Package Length: 1.6; Package Width: 0.8; PCB changed: 2; Lead Shape: No Lead; Supplier 1: Digi-Key; Supplier Part Number 1: 160-1446-1-ND; Stock 1: 745051; Pricing 1: 1=0.26, 10=0.192, 100=0.0909, 500=0.0606, 1000=0.0475, 2500=0.0465 (USD); Part Status: Active; HTS: 8541.40.20.00; Type: Uni-Color; Product Category: Chip LED; Color: Green; Minimum Operating Temperature (°C): -55; Maximum Operating Temperature (°C): 85; Supplier Color: Green; High Power: No; Packaging: Tape and Reel; Supplier Package: Chip LED; Standard Package Name: Chip LED; Pin Count: 2; Mounting: Surface Mount; ComponentLink1URL: http://optoelectronics.liteon.com/upload/download/DS22-2000-228/LTST-C191KGKT.PDF?src-supplier=Digi-Key; ComponentLink1Description: http://optoelectronics.liteon.com/upload/download/DS22-2000-228/LTST-C191KGKT.PDF?src-supplier=Digi-Key; Category: Optoelectronics
footprint LED 0603G
pins: 1, 2

## LTST-C191KRKT
designator D?, comment RED
On a Reel of 5000, 2.4 V Red LED 1608 (0603) SMD, Lite-On LTST-C191KRKT; Manufacturer: Vishay Lite-On; Chip Material: AlGaInP; DELETED: Compliant; Forward Voltage: 2.4 V; Forward Current: 30 mA; Dominant Wave Length: 631 nm; Lum Intensity: 54mcd; High Brightness: Yes; Number of  Elements: 1; Main Category: Chip LED; Power Dissipation: 75 W; Peak Wavelength: 639 nm; Shape Type: Rectangular; Type: Uni-Color; Reverse Voltage: 5 V; Viewing Angle: 130 deg; Test Current (It): 20 mA; Rad Hardened: No; Product Depth (mm): 0.8 mm; Product Height (mm): 0.55 mm; Product Length (mm): 1.6 mm; Supplier 1: Digi-Key; Supplier Part Number 1: 160-1447-1-ND; Manufacturer Part Number: LTST-C191KRKT; Stock 1: 153604; Pricing 1: 1=0.26, 10=0.192, 100=0.0909, 500=0.0606, 1000=0.0475, 2500=0.0465 (USD); Emitting Color: Red; Mounting: Surface Mount; Operating Temp Range: -55C to 85C; Lens Dimensions: 1.1X0.8X0.37 mm; Luminous Intensity: 54mcd; Package Type: Chip Led; Packaging: Tape and Reel; Pin Count: 2; Operating Temperature Classification: Industrial; ComponentLink1URL: http://optoelectronics.liteon.com/upload/download/DS22-2000-223/LTST-C191KRKT.PDF?src-supplier=Digi-Key; ComponentLink1Description: http://optoelectronics.liteon.com/upload/download/DS22-2000-223/LTST-C191KRKT.PDF?src-supplier=Digi-Key; ComponentLink2URL: http://www1.futureelectronics.com/doc/LITE-ON/LTST-C191KRKT.pdf?src-supplier=Future+Electronics; ComponentLink2Description: http://www1.futureelectronics.com/doc/LITE-ON/LTST-C191KRKT.pdf?src-supplier=Future+Electronics; ComponentLink3URL: https://www.verical.com/server-webapp/html/getDatasheet?partID=141922&src-supplier=Verical; ComponentLink3Description: https://www.verical.com/server-webapp/html/getDatasheet?partID=141922&src-supplier=Verical; ComponentLink4URL: http://www.mouser.com/ds/2/239/LTST-C191KRKT-1140668.pdf?src-supplier=Mouser; ComponentLink4Description: http://www.mouser.com/ds/2/239/LTST-C191KRKT-1140668.pdf?src-supplier=Mouser; Category: Optoelectronics
footprint LED 0603R
pins: 1, 2

## MC74ACT125DTR2G
designator U?, comment 4x1 3-S-Buff
IC BUFF TRI-ST QD N-INV 14TSSOP; Manufacturer: ON Semiconductor; Manufacturer Part Number: MC74ACT125DTR2G; Logic Family: ACT; Logical Function: Buffer/Line Driver; Number of  Elements: 4; Operating Supply Voltage (Typ): 5V; Output Type: 3-State; Polarity: Non-Inverting; Propagation Delay Time: 10.5ns; High Level Output Current: -24mA; Low Level Output Current: 24mA; Operating Supply Voltage (Max): 5.5V; Operating Supply Voltage (Min): 4.5V; Quiescent Current: 8uA; Supplier 1: Digi-Key; Supplier Part Number 1: MC74ACT125DTR2GOSCT-ND; Stock 1: 3201; Pricing 1: 1=0.4, 10=0.342, 25=0.3188, 100=0.2551, 250=0.2369, 500=0.2004, 1000=0.1549 (USD); Number of Channels: 4; Number of Inputs: 4; Number of Outputs: 4; Package Type: TSSOP; Packaging: Tape and Reel; Technology: CMOS; Pin Count: 14; Mounting: Surface Mount; Operating Temp Range: -40C to 85C; Operating Temperature Classification: Industrial; ComponentLink1URL: http://www.onsemi.com/pub_link/Collateral/MC74AC125-D.PDF?src-supplier=Digi-Key; ComponentLink1Description: http://www.onsemi.com/pub_link/Collateral/MC74AC125-D.PDF?src-supplier=Digi-Key; ComponentLink2URL: http://www.onsemi.cn/pub_link/Collateral/MC74AC125-D.PDF?src-supplier=Avnet; ComponentLink2Description: http://www.onsemi.cn/pub_link/Collateral/MC74AC125-D.PDF?src-supplier=Avnet; ComponentLink3URL: http://www.onsemi.cn/pub_link/Collateral/MC74AC125-D.PDF?src-supplier=Avnet+Europe; ComponentLink3Description: http://www.onsemi.cn/pub_link/Collateral/MC74AC125-D.PDF?src-supplier=Avnet+Europe; ComponentLink4URL: https://www.verical.com/server-webapp/html/getDatasheet?partID=148069&src-supplier=Verical; ComponentLink4Description: https://www.verical.com/server-webapp/html/getDatasheet?partID=148069&src-supplier=Verical
footprint BUFF TSSOP-14
pins: 1 ~{A0}, 2 B0, 3 O0, 4 ~{A1}, 5 B1, 6 O1, 7 GND, 8 O3, 9 B3, 10 ~{A3}, 11 O2, 12 B2, 13 ~{A2}, 14 VCC

## SN74AHCT1G04DCKR
designator U?, comment NOT
TEXAS INSTRUMENTS - SN74AHCT1G04DCKR - Inverter, 74AHCT1G04, 1 Input, 25 mA, 4.5 V to 5.5 V, SC-70-5; Logic Type: Inverter, Buffer; Number of Circuits: 1; Voltage - Supply: 4.5 V ~ 5.5 V; Current - Quiescent (Max): 1µA; Current - Output High, Low: 8mA, 8mA; Logic Level - Low: 0.8V; Logic Level - High: 2V; Max Propagation Delay @ V, Max CL: 7.7ns @ 5V, 50pF; Dynamic Catalog: 74AHCT; Other Names: 296-4706-2; Supplier 1: Digi-Key; Supplier Part Number 1: 296-4706-1-ND; Manufacturer: Texas Instruments; Manufacturer Part Number: SN74AHCT1G04DCKR; Stock 1: 10510; Pricing 1: 1=0.33, 10=0.269, 25=0.2252, 100=0.1425, 250=0.11, 500=0.0938, 1000=0.0638 (USD); Standard Package: 3,000; Category: Integrated Circuits (ICs); Family: Logic - Gates and Inverters; Series: 74AHCT; Number of Inputs: 1; Features: -; Operating Temperature: -40°C ~ 85°C; Mounting Type: Surface Mount; Supplier Device Package: SC-70-5; Package / Case: 6-TSSOP (5 Lead), SC-88A, SOT-353; Packaging: Tape & Reel (TR); ComponentLink1URL: http://www.ti.com/lit/ds/symlink/sn74ahct1g04.pdf?src-supplier=Digi-Key; ComponentLink1Description: http://www.ti.com/lit/ds/symlink/sn74ahct1g04.pdf?src-supplier=Digi-Key; ComponentLink2URL: http://www.jameco.com/Jameco/Products/ProdDS/913635.pdf?src-supplier=Jameco; ComponentLink2Description: http://www.jameco.com/Jameco/Products/ProdDS/913635.pdf?src-supplier=Jameco; ComponentLink3URL: http://www.farnell.com/datasheets/2024315.pdf?src-supplier=Element14; ComponentLink3Description: http://www.farnell.com/datasheets/2024315.pdf?src-supplier=Element14; ComponentLink4URL: http://www.farnell.com/datasheets/1882070.pdf?src-supplier=Element14; ComponentLink4Description: http://www.farnell.com/datasheets/1882070.pdf?src-supplier=Element14; ComponentLink5URL: https://www.verical.com/server-webapp/html/getDatasheet?partID=190004&src-supplier=Verical; ComponentLink5Description: https://www.verical.com/server-webapp/html/getDatasheet?partID=190004&src-supplier=Verical; ComponentLink6URL: http://focus.ti.com/lit/ds/symlink/sn74ahct1g04.pdf?src-supplier=Avnet+Europe; ComponentLink6Description: http://focus.ti.com/lit/ds/symlink/sn74ahct1g04.pdf?src-supplier=Avnet+Europe; ComponentLink7URL: http://www.produktinfo.conrad.com/datenblaetter/1000000-1099999/001075028-da-01-en-IC_SINGLE_I_SN74AHCT1G04DCKR_SC_70_5_TID.pdf?src-supplier=Conrad; ComponentLink7Description: http://www.produktinfo.conrad.com/datenblaetter/1000000-1099999/001075028-da-01-en-IC_SINGLE_I_SN74AHCT1G04DCKR_SC_70_5_TID.pdf?src-supplier=Conrad
pins: 1 NC, 2 A, 3 GND, 4 Y, 5 NC

## SSW-102-02-T-S
designator J?, comment 2x1 Socket
CONN RCPT 2POS 0.1 TIN PCB; Manufacturer: Samtec; Manufacturer Part Number: SSW-102-02-T-S; Rad Hard: No; Pitch: 2.54 mm; Number of Contacts: 2; Gender: SKT; Supplier 1: Digi-Key; Supplier Part Number 1: SAM1222-02-ND; Stock 1: 628; Pricing 1: 1=0.26, 10=0.247, 25=0.2116, 50=0.18, 100=0.1729, 250=0.1552, 500=0.1482 (USD); Packaging: Bulk; Type: Socket Strip; Number of Rows: 1; Contact Plating: Tin Over Nickel; Termination Method: Solder; Category: Connector Headers and PCB Receptacles; ComponentLink1URL: http://suddendocs.samtec.com/prints/ssw-s.pdf?src-supplier=Digi-Key; ComponentLink1Description: http://suddendocs.samtec.com/prints/ssw-s.pdf?src-supplier=Digi-Key; Category: Connectors
footprint FHDR1X2
pins: 1, 2